# Altium schematic symbol library omnetics.SchLib: 1 symbol
Pins are listed as number, name and electrical type; pins without a type are passive.

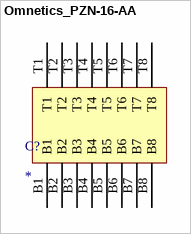
[diagram p0: symbol Omnetics_PZN-16-AA]

## Omnetics_PZN-16-AA
designator C?
pins: B1, B2, B3, B4, B5, B6, B7, B8, T1, T2, T3, T4, T5, T6, T7, T8